# EAGLE library part LSSAM22-V-T_R (library LSSAM22-V-T_R)
Slide Switches Large-sized Type 2P2 T Source: Datasheet <https://www.weltroniker.de/DB-Pool/DIP_LSS.pdf>
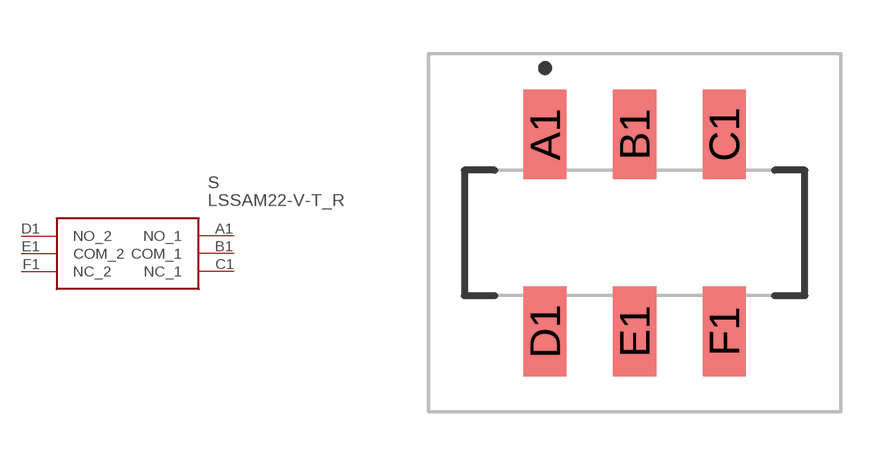
[diagram p0: symbol with the pads of LSSAM22VTR; footprint LSSAM22VTR]

Designator prefix S

## LSSAM22-V-T_R (Description: Slide Switches Large-sized Type 2P2 T; Height: 5.5mm; Manufacturer_Name: Diptronics; Manufacturer_Part_Number: LSSAM22-V-T/R; Mouser_Part_Number: 113-LSSAM22VTR; Mouser_Price-Stock: https://www.mouser.co.uk/ProductDetail/Diptronics/LSSAM22-V-T-R?qs=MLItCLRbWsxyMNC1E8JP9w%3D%3D)  [LSSAM22VTR]
A1  NO_1
B1  COM_1
C1  NC_1
D1  NO_2
E1  COM_2
F1  NC_2

## Footprint LSSAM22VTR (pad centres in mm)
LSSAM22-V-T/R-2
smd 1.2 x 2.5: A1 -2.5,2.75; B1 0,2.75; C1 2.5,2.75; D1 -2.5,-2.75; E1 0,-2.75; F1 2.5,-2.75